# Altium schematic symbol library FPC_8 .SchLib: 1 symbol
Pins are listed as number, name and electrical type; pins without a type are passive.

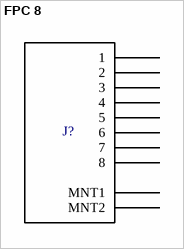
[diagram p0: symbol FPC 8]

## FPC 8
designator J?, comment J  (value not drawn)
0.5mm Pitch 8 Pin FPCFFC SMT Drawer Connector
footprint FPC 8
pins: 1, 2, 3, 4, 5, 6, 7, 8, 9 MNT1, 10 MNT2